# Altium schematic symbol library SCH - POWER - LINEAR VREG - AD MAX1983.SCHLIB: 1 symbol
Pins are listed as number, name and electrical type; pins without a type are passive.

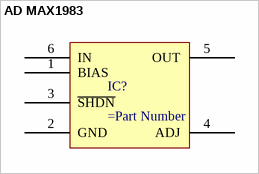
[diagram p0: symbol AD MAX1983]

## AD MAX1983
designator IC?
pins: 1 BIAS, 2 GND, 3 ~{SHDN}, 4 ADJ, 5 OUT, 6 IN